# Altium schematic symbol library CBT50J5R1.SchLib: 1 symbol
Pins are listed as number, name and electrical type; pins without a type are passive.

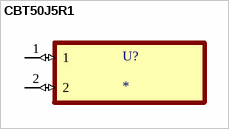
[diagram p0: symbol CBT50J5R1]

## CBT50J5R1
designator U?
MP: CBT50J5R1; MF: {'manufacturer': u'TE Connectivity / AMP'}; Value: *; Price: None; Package: None; Availability: Unavailable
footprint RESAD640W45L370D200
pins: 1 (io), 2 (io)